# EAGLE library part LT8912B (library LT8912B)
The Lontium LT8912 MIPI® DSI to LVDS and HDMI/MHL bridge features a single-channel MIPI® D-PHY receiver front-end configuration with 4 data lanes per channel operating at 1.5Gbps per data lane and a maximum input bandwidth of 6Gbps. For screen application, the bridge decodes MIPI® DSI 18bpp RGB666 and 24bpp RGB888 packets and converts the formatted video data stream to a compatible LVDS output operating at pixel clock operating from 25MHz to 154MHz, offering a single-link LVDS with 4 data lanes per link.
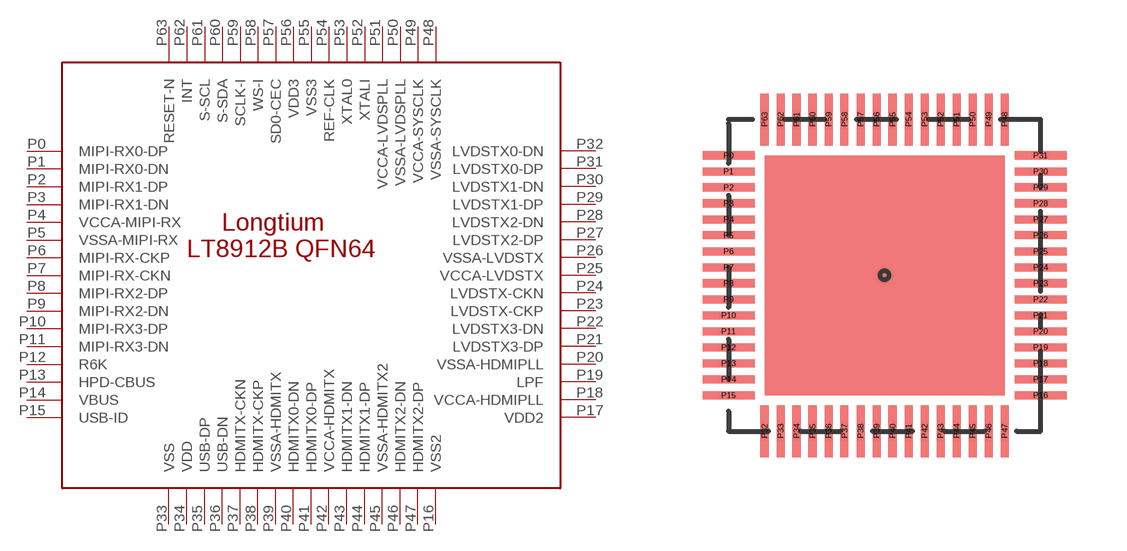
[diagram p0: symbol with the pads of LT8912B; footprint LT8912B]

Designator prefix -

## LT8912B  [LT8912B]
P0  MIPI-RX0-DP
P1  MIPI-RX0-DN
P2  MIPI-RX1-DP
P3  MIPI-RX1-DN
P4  VCCA-MIPI-RX
P5  VSSA-MIPI-RX
P6  MIPI-RX-CKP
P7  MIPI-RX-CKN
P8  MIPI-RX2-DP
P9  MIPI-RX2-DN
P10  MIPI-RX3-DP
P11  MIPI-RX3-DN
P12  R6K
P13  HPD-CBUS
P14  VBUS
P15  USB-ID
P16  VSS2
P17  VDD2
P18  VCCA-HDMIPLL
P19  LPF
P20  VSSA-HDMIPLL
P21  LVDSTX3-DP
P22  LVDSTX3-DN
P23  LVDSTX-CKP
P24  LVDSTX-CKN
P25  VCCA-LVDSTX
P26  VSSA-LVDSTX
P27  LVDSTX2-DP
P28  LVDSTX2-DN
P29  LVDSTX1-DP
P30  LVDSTX1-DN
P31  LVDSTX0-DP
P32  LVDSTX0-DN
P33  VSS
P34  VDD
P35  USB-DP
P36  USB-DN
P37  HDMITX-CKN
P38  HDMITX-CKP
P39  VSSA-HDMITX
P40  HDMITX0-DN
P41  HDMITX0-DP
P42  VCCA-HDMITX
P43  HDMITX1-DN
P44  HDMITX1-DP
P45  VSSA-HDMITX2
P46  HDMITX2-DN
P47  HDMITX2-DP
P48  VSSA-SYSCLK
P49  VCCA-SYSCLK
P50  VSSA-LVDSPLL
P51  VCCA-LVDSPLL
P52  XTALI
P53  XTAL0
P54  REF-CLK
P55  VSS3
P56  VDD3
P57  SD0-CEC
P58  WS-I
P59  SCLK-I
P60  S-SDA
P61  S-SCL
P62  INT
P63  RESET-N

## Footprint LT8912B (pad centres in mm)
smd 1.3 x 0.2: P0 -3.9,3; P1 -3.9,2.6; P2 -3.9,2.2; P3 -3.9,1.8; P4 -3.9,1.4; P5 -3.9,1; P6 -3.9,0.6; P7 -3.9,0.2; P8 -3.9,-0.2; P9 -3.9,-0.6; P10 -3.9,-1; P11 -3.9,-1.4; P12 -3.9,-1.8; P13 -3.9,-2.2; P14 -3.9,-2.6; P15 -3.9,-3; P16 3.9,-3; P17 3.9,-2.6; P18 3.9,-2.2; P19 3.9,-1.8; P20 3.9,-1.4; P21 3.9,-1; P22 3.9,-0.6; P23 3.9,-0.2; P24 3.9,0.2; P25 3.9,0.6; P26 3.9,1; P27 3.9,1.4; P28 3.9,1.8; P29 3.9,2.2; P30 3.9,2.6; P31 3.9,3
smd 0.2 x 1.3: P32 -3,-3.9; P33 -2.6,-3.9; P34 -2.2,-3.9; P35 -1.8,-3.9; P36 -1.4,-3.9; P37 -1,-3.9; P38 -0.6,-3.9; P39 -0.2,-3.9; P40 0.2,-3.9; P41 0.6,-3.9; P42 1,-3.9; P43 1.4,-3.9; P44 1.8,-3.9; P45 2.2,-3.9; P46 2.6,-3.9; P47 3,-3.9; P48 3,3.9; P49 2.6,3.9; P50 2.2,3.9; P51 1.8,3.9; P52 1.4,3.9; P53 1,3.9; P54 0.6,3.9; P55 0.2,3.9; P56 -0.2,3.9; P57 -0.6,3.9; P58 -1,3.9; P59 -1.4,3.9; P60 -1.8,3.9; P61 -2.2,3.9; P62 -2.6,3.9; P63 -3,3.9